# Altium schematic symbol library CD74HC4067.Schlib: 1 symbol
Pins are listed as number, name and electrical type; pins without a type are passive.

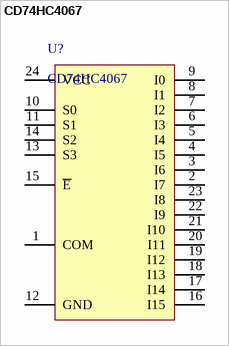
[diagram p0: symbol CD74HC4067]

## CD74HC4067
designator U?
1 Circuit IC Switch 16:1 160Ohm 24-SOIC
pins: 1 COM, 2 I7, 3 I6, 4 I5, 5 I4, 6 I3, 7 I2, 8 I1, 9 I0, 10 S0, 11 S1, 12 GND, 13 S3, 14 S2, 15 ~{E}, 16 I15, 17 I14, 18 I13, 19 I12, 20 I11, 21 I10, 22 I9, 23 I8, 24 VCC